# Altium footprint library IMXRT1052_MB_PRO.PcbLib: 59 footprints (part 2 of 4)
Each footprint in its own frame and in the unit in brackets; x right, y up, seen from the top. Pads: shape width x height; smd on the part's side, far side on the other; paste and mask are expansions set on the pad; w line width, h text height; cw(c..) or ccw(c..) is an arc to the next point about the centre after c.
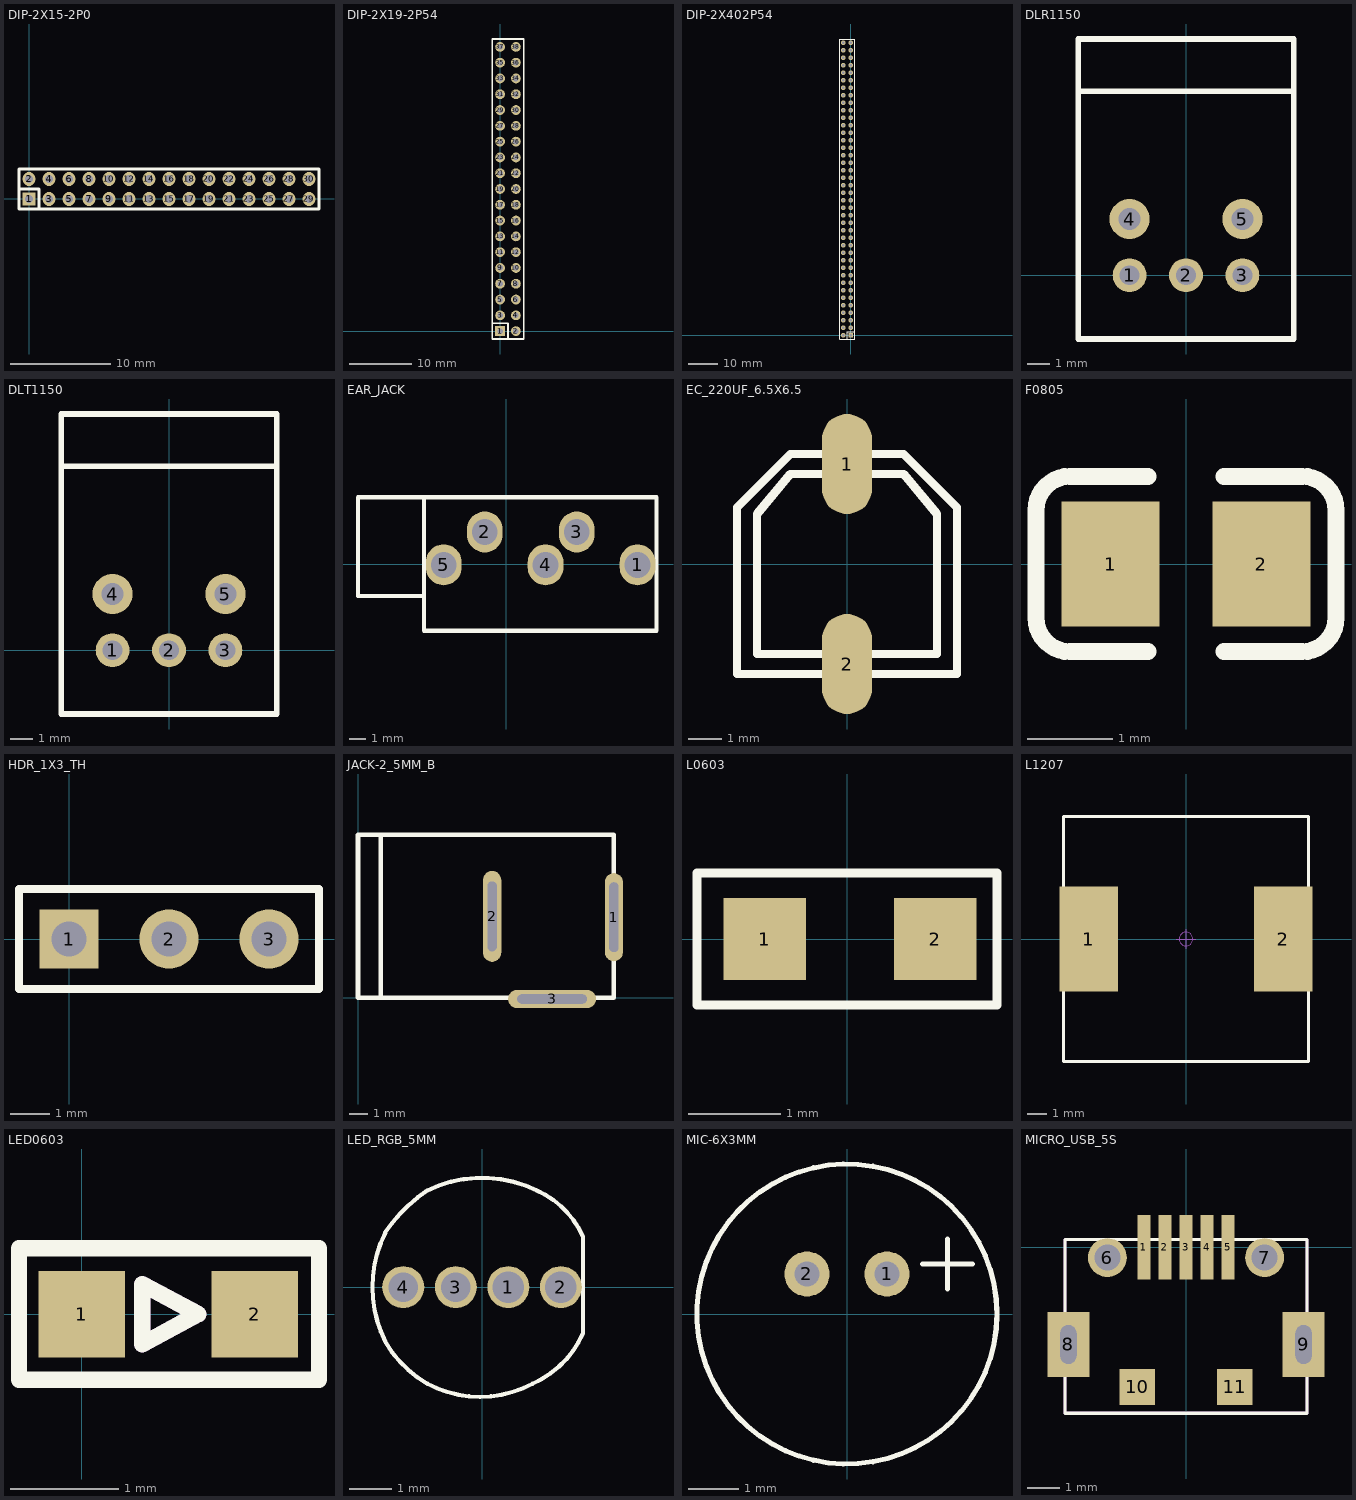
[diagram p1: the footprints below, top view; thin cyan lines are the x and y axes]

## DIP-2X15-2P0 [mil]
pads (30):
  rect 50x50 hole 31.5: 1(0,0)
  oval 50x55 hole 31.5: 2(0,78.74) 3(78.74,0) 4(78.74,78.74) 5(157.48,0) 6(157.48,78.74) 7(236.22,0) 8(236.22,78.74) 9(314.96,0) 10(314.96,78.74) 11(393.7,0) 12(393.7,78.74) 13(472.44,0) 14(472.44,78.74) 15(551.18,0) 16(551.18,78.74) 17(629.92,0) 18(629.92,78.74) 19(708.66,0) 20(708.66,78.74) 21(787.4,0) 22(787.4,78.74) 23(866.14,0) 24(866.14,78.74) 25(944.88,0) 26(944.88,78.74) 27(1023.62,0) 28(1023.62,78.74) 29(1102.36,0) 30(1102.36,78.74)
Top Overlay:
  lines w10: -39.37,39.37 39.37,39.37 39.37,-39.37 ; -39.37,-39.37 1141.73,-39.37 1141.73,118.11 -39.37,118.11 -39.37,-39.37

## DIP-2X19-2P54 [mil]
pads (38):
  rect 62x62 hole 35.43: 1(0,0)
  round 62 hole 35.43: 2(100,0) 3(0,100) 4(100,100) 5(0,200) 6(100,200) 7(0,300) 8(100,300) 9(0,400) 10(100,400) 11(0,500) 12(100,500) 13(0,600) 14(100,600) 15(0,700) 16(100,700) 17(0,800) 18(100,800) 19(0,900) 20(100,900) 21(0,1000) 22(100,1000) 23(0,1100) 24(100,1100) 25(0,1200) 26(100,1200) 27(0,1300) 28(100,1300) 29(0,1400) 30(100,1400) 31(0,1500) 32(100,1500) 33(0,1600) 34(100,1600) 35(0,1700) 36(100,1700) 37(0,1800) 38(100,1800)
Top Overlay:
  lines w12: -50,50 50,50 50,-50 ; -50,-50 150,-50 150,1850 -50,1850 -50,-50

## DIP-2X402P54 [mil]
pads (80):
  rrect0% 62x62 hole 35.43: 1(0,0)
  round 62 hole 35.43: 2(-100,0) 3(0,100) 4(-100,100) 5(0,200) 6(-100,200) 7(0,300) 8(-100,300) 9(0,400) 10(-100,400) 11(0,500) 12(-100,500) 13(0,600) 14(-100,600) 15(0,700) 16(-100,700) 17(0,800) 18(-100,800) 19(0,900) 20(-100,900) 21(0,1000) 22(-100,1000) 23(0,1100) 24(-100,1100) 25(0,1200) 26(-100,1200) 27(0,1300) 28(-100,1300) 29(0,1400) 30(-100,1400) 31(0,1500) 32(-100,1500) 33(0,1600) 34(-100,1600) 35(0,1700) 36(-100,1700) 37(0,1800) 38(-100,1800) 39(0,1900) 40(-100,1900) 41(0,2000) 42(-100,2000) 43(0,2100) 44(-100,2100) 45(0,2200) 46(-100,2200) 47(0,2300) 48(-100,2300) 49(0,2400) 50(-100,2400) 51(0,2500) 52(-100,2500) 53(0,2600) 54(-100,2600) 55(0,2700) 56(-100,2700) 57(0,2800) 58(-100,2800) 59(0,2900) 60(-100,2900) 61(0,3000) 62(-100,3000) 63(0,3100) 64(-100,3100) 65(0,3200) 66(-100,3200) 67(0,3300) 68(-100,3300) 69(0,3400) 70(-100,3400) 71(0,3500) 72(-100,3500) 73(0,3600) 74(-100,3600) 75(0,3700) 76(-100,3700) 77(0,3800) 78(-100,3800) 79(0,3900) 80(-100,3900)
Top Overlay:
  lines w12: -50,-50 -50,50 50,50 ; -150,-50 50,-50 50,3950 -150,3950 -150,-50

## DLR1150 [mil]
pads (5):
  round 60 hole 35: 1(-100,0) 2(0,0) 3(100,0)
  round 70.87 hole 39.37: 4(-100,99.61) 5(100,99.61)
Top Overlay:
  lines w10: -190.94,325.98 190.94,325.98 ; -190.94,325.98 -190.94,-112.99 190.94,-112.99 190.94,325.98 ; -190.94,325.98 -190.94,418.5 190.94,418.5 190.94,325.98

## DLT1150 [mil]
pads (5):
  round 60 hole 35: 1(-100,0) 2(0,0) 3(100,0)
  round 70.87 hole 39.37: 4(-100,99.61) 5(100,99.61)
Top Overlay:
  lines w10: -190.94,325.98 190.94,325.98 ; -190.94,325.98 -190.94,-112.99 190.94,-112.99 190.94,325.98 ; -190.94,325.98 -190.94,418.5 190.94,418.5 190.94,325.98

## EAR_JACK [mil]
pads (5):
  oval 86x98 hole 62: 1(314.96,-1.97) 2(-51.18,76.77) 3(169.29,76.77) 4(94.49,-1.97) 5(-149.61,-1.97)
Top Overlay:
  lines w10: -200,-77 -355,-77 -355,160 -200,160 ; -197,-160 360,-160 360,160 -197,160 -197,-160

## EC_220UF_6.5X6.5 [mm]
pads (2):
  oval 1.5x3 smd: 1(0,3) 2(0,-3)
Top Overlay:
  lines w0.254: -3.3,-3.3 3.3,-3.3 3.3,1.7 1.7,3.3 -1.7,3.3 -3.3,1.7 -3.3,-3.3 ; -2.7,-2.7 2.7,-2.7 2.7,1.5 1.7,2.7 -1.7,2.7 -2.7,1.5 -2.7,-2.7

## F0805 [mm]
pads (2):
  rect 1.16x1.47 smd: 1(-0.89,0) 2(0.89,0)
Top Overlay:
  lines w0.2: -0.45,-1.035 -1.37,-1.035 cw(c-1.37,-0.635) -1.77,-0.635 -1.77,0.635 cw(c-1.37,0.635) -1.37,1.035 -0.45,1.035 ; 0.45,-1.035 1.37,-1.035 ccw(c1.37,-0.635) 1.77,-0.635 1.77,0.635 ccw(c1.37,0.635) 1.37,1.035 0.45,1.035

## HDR_1X3_TH [mm]
height 1.2
pads (3):
  rect 1.5x1.5 hole 0.9: 1(0,0)
  round 1.5 hole 0.9: 2(2.54,0) 3(5.08,0)
Top Overlay:
  lines w0.2: -1.27,-1.27 6.35,-1.27 6.35,1.27 -1.27,1.27 -1.27,-1.27

## JACK-2_5MM_B [mm]
pads (3):
  oval 1x4.826 / inner oval 1x4.826 / far side oval 2.032x4.826 hole 0.5 slot 3.81 at 90 deg: 1(14,4.399)
  oval 1x4.978 / inner oval 2.032x4.978 / far side oval 2.032x4.978 hole 0.5 slot 3.81 at 90 deg: 2(7.341,4.445)
  oval 4.826x1 / inner oval 4.826x2.032 / far side oval 4.826x2.032 hole 0.5 slot 3.81 at 0 deg: 3(10.617,-0.076)
Top Overlay:
  lines w0.254: 1.245,0.051 1.245,8.9 ; 0,0 0,8.9 14,8.9 14,0 0,0

## L0603 [mil]
pads (2):
  rect 35x35 smd: 1(-35,0) 2(37.49,0)
Top Overlay:
  lines w3.94: -63.74,-28 63.74,-28 63.74,28 -63.74,28 -63.74,-28

## L1207 [mm]
height 5.3
pads (2):
  rect 3x5.4 smd mask+0.05: 1(-5,0) 2(5,0)
Top Overlay:
  lines w0.152: -6.3,-6.3 6.3,-6.3 6.3,6.3 -6.3,6.3 -6.3,-6.3
Mechanical 16:
  circle w0.05: c0,0 r0.35
  lines w0.05: -0.5,0 0.5,0 ; 0,-0.5 0,0.5

## LED0603 [mm]
pads (2):
  rect 0.8x0.8 smd: 1(0,0) 2(1.6,0)
Top Overlay:
  lines w0.152: -0.579,-0.605 2.193,-0.605 2.193,0.607 -0.579,0.607 -0.579,-0.605 ; 0.562,-0.277 1.076,0.001 0.562,0.277 0.562,-0.277
Mechanical 1:
  lines w0.152: 0.562,-0.277 1.076,0.001 0.562,0.277 0.562,-0.277

## LED_RGB_5MM [mm]
pads (4):
  round 1 hole 0.75: 1(0.625,0) 2(1.875,0)
  round 1 hole 0.7: 3(-0.625,0) 4(-1.875,0)
Top Overlay:
  lines w0.1: -2.301,1.297 ccw(c0.3,0) -2.299,-1.302 ; -2.299,-1.301 ccw(c0.05,0.05) -1.301,-2.299 ; -2.299,1.302 cw(c0.65,-0.65) -1.297,2.302 ; -1.3,-2.3 ccw(c-0.05,0.05) 1.2,-2.3 ; -1.299,2.301 cw(c0,-0.35) 1.303,2.298 ; 1.202,-2.299 ccw(c0.25,-0.15) 2.401,-1.099 ; 1.302,2.299 cw(c0.45,0.35) 2.401,1.198 ; 2.4,-1.1 2.4,1.2

## MIC-6X3MM [mm]
pads (2):
  round 0.9 hole 0.5: 1(0.8,0.8) 2(-0.8,0.8)
Top Overlay:
  circle w0.102: c0,0 r3
  lines w0.102: 1.506,0.997 2.506,0.997 ; 2.006,0.497 2.006,1.497

## MICRO_USB_5S [mm]
pads (11):
  rect 0.4x2 smd: 1(-1.3,0) 2(-0.65,0) 3(0,0) 4(0.65,0) 5(1.3,0)
  round 1.2 hole 0.8: 6(-2.425,-0.32) 7(2.425,-0.32)
  rect 1.3x2 hole 0.5 slot 1.2 at 90 deg: 8(-3.625,-3) 9(3.625,-3)
  rect 1.1x1.1 smd: 10(-1.5,-4.31) 11(1.5,-4.31)
Top Overlay:
  lines w0.1: -3.73,-5.12 3.73,-5.12 3.73,0.235 -3.73,0.235 -3.73,-5.12
Mechanical 1:
  lines w0.1: -3.73,-5.12 3.73,-5.12 3.73,0.235 -3.73,0.235 -3.73,-5.12